# EAGLE library part APR9600_DIP-28 (library aplus)
SINGLE-CHIP VOICE RECORDING & PLAYBACK DEVICE FOR SINGLE 60 SECOND # Created by SCRIPT exported from Ultra Librarian Gold 5.3.88 Copyright © 1999-2010 # Tanvir Mohammed, Premier Farnell 2013-04-24 alf@cadsoft.de
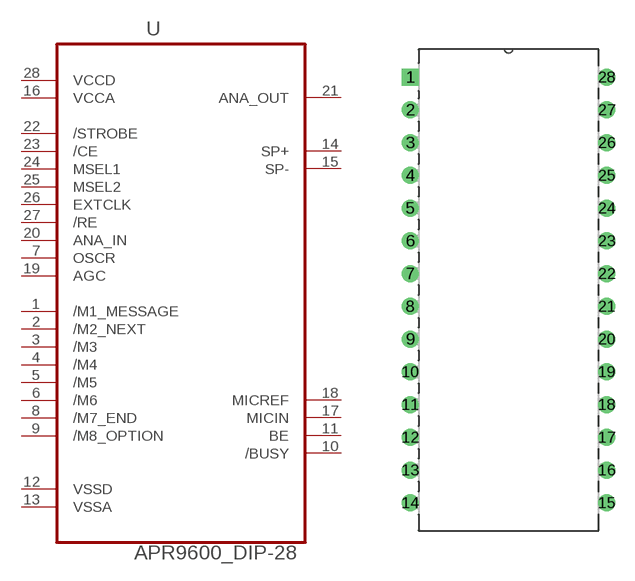
[diagram p1: symbol with the pads of DIP254P1525X550-28P; footprint DIP254P1525X550-28P]

Designator prefix U

## APR9600_DIP-28 (MPN: APR9600_DIP-28; OC_FARNELL: unknown; OC_NEWARK: unknown; PACKAGE: DIP-28; SUPPLIER: APLUS INTEGRATED CIRCUITS INC)  [DIP254P1525X550-28P]
1  /M1_MESSAGE  in
2  /M2_NEXT  in
3  /M3  in
4  /M4  in
5  /M5  in
6  /M6  in
7  OSCR  in
8  /M7_END  in
9  /M8_OPTION  in
10  /BUSY  in
11  BE  in
12  VSSD  pas
13  VSSA  pas
14  SP+  out
15  SP-  out
16  VCCA  pwr
17  MICIN  in
18  MICREF  in
19  AGC  in
20  ANA_IN  in
21  ANA_OUT  out
22  /STROBE  in
23  /CE  in
24  MSEL1  in
25  MSEL2  in
26  EXTCLK  in
27  /RE  in
28  VCCD  pwr

## Footprint DIP254P1525X550-28P (pad centres in mm)
# Created by Ultra Librarian Gold 5.3.88 Copyright © 1999-2010 # Tanvir Mohammed, Premier Farnell Origin corrected by alf@cadsoft.de
drill 0.813 pad 1.3 square: 1 -7.62,16.51
drill 0.813 pad 1.3: 2 -7.62,13.97; 3 -7.62,11.43; 4 -7.62,8.89; 5 -7.62,6.35; 6 -7.62,3.81; 7 -7.62,1.27; 8 -7.62,-1.27; 9 -7.62,-3.81; 10 -7.62,-6.35; 11 -7.62,-8.89; 12 -7.62,-11.43; 13 -7.62,-13.97; 14 -7.62,-16.51; 15 7.62,-16.51; 16 7.62,-13.97; 17 7.62,-11.43; 18 7.62,-8.89; 19 7.62,-6.35; 20 7.62,-3.81; 21 7.62,-1.27; 22 7.62,1.27; 23 7.62,3.81; 24 7.62,6.35; 25 7.62,8.89; 26 7.62,11.43; 27 7.62,13.97; 28 7.62,16.51